# EAGLE library part HIP4081 (library okamoto)
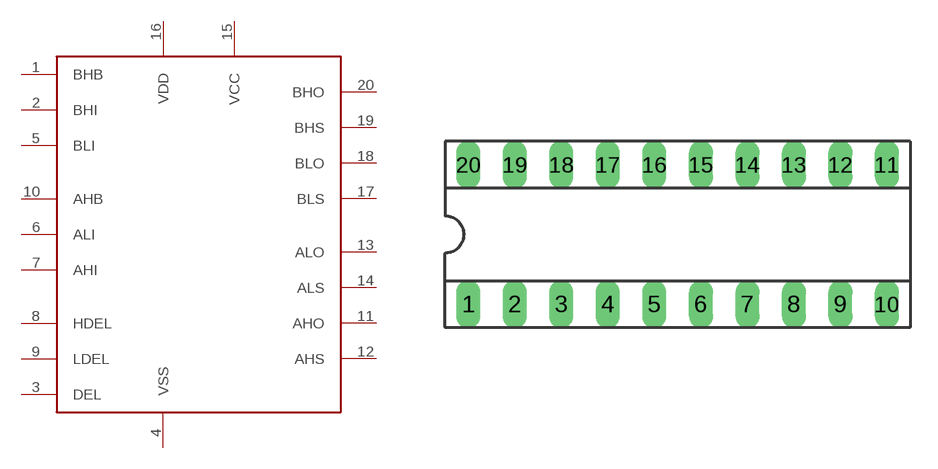
[diagram p2: symbol with the pads of SOCKET-20; footprint SOCKET-20]

Designator prefix -

## HIP4081  [SOCKET-20]
1  BHB
2  BHI  in
3  DEL
4  VSS  pwr
5  BLI  in
6  ALI  in
7  AHI  in
8  HDEL
9  LDEL
10  AHB
11  AHO  out
12  AHS  out
13  ALO  out
14  ALS
15  VCC
16  VDD  pwr
17  BLS
18  BLO  out
19  BHS  out
20  BHO  out

## Footprint SOCKET-20 (pad centres in mm)
Dual In Line Socket
drill 0.813 long: 1 -11.43,-3.81; 2 -8.89,-3.81; 3 -6.35,-3.81; 4 -3.81,-3.81; 5 -1.27,-3.81; 6 1.27,-3.81; 7 3.81,-3.81; 8 6.35,-3.81; 9 8.89,-3.81; 10 11.43,-3.81; 11 11.43,3.81; 12 8.89,3.81; 13 6.35,3.81; 14 3.81,3.81; 15 1.27,3.81; 16 -1.27,3.81; 17 -3.81,3.81; 18 -6.35,3.81; 19 -8.89,3.81; 20 -11.43,3.81